# Altium footprint library KelvinVoltageMeasureModule.PcbLib: 35 footprints (part 1 of 3)
Each footprint in its own frame and in the unit in brackets; x right, y up, seen from the top. Pads: shape width x height; smd on the part's side, far side on the other; paste and mask are expansions set on the pad; w line width, h text height; cw(c..) or ccw(c..) is an arc to the next point about the centre after c.
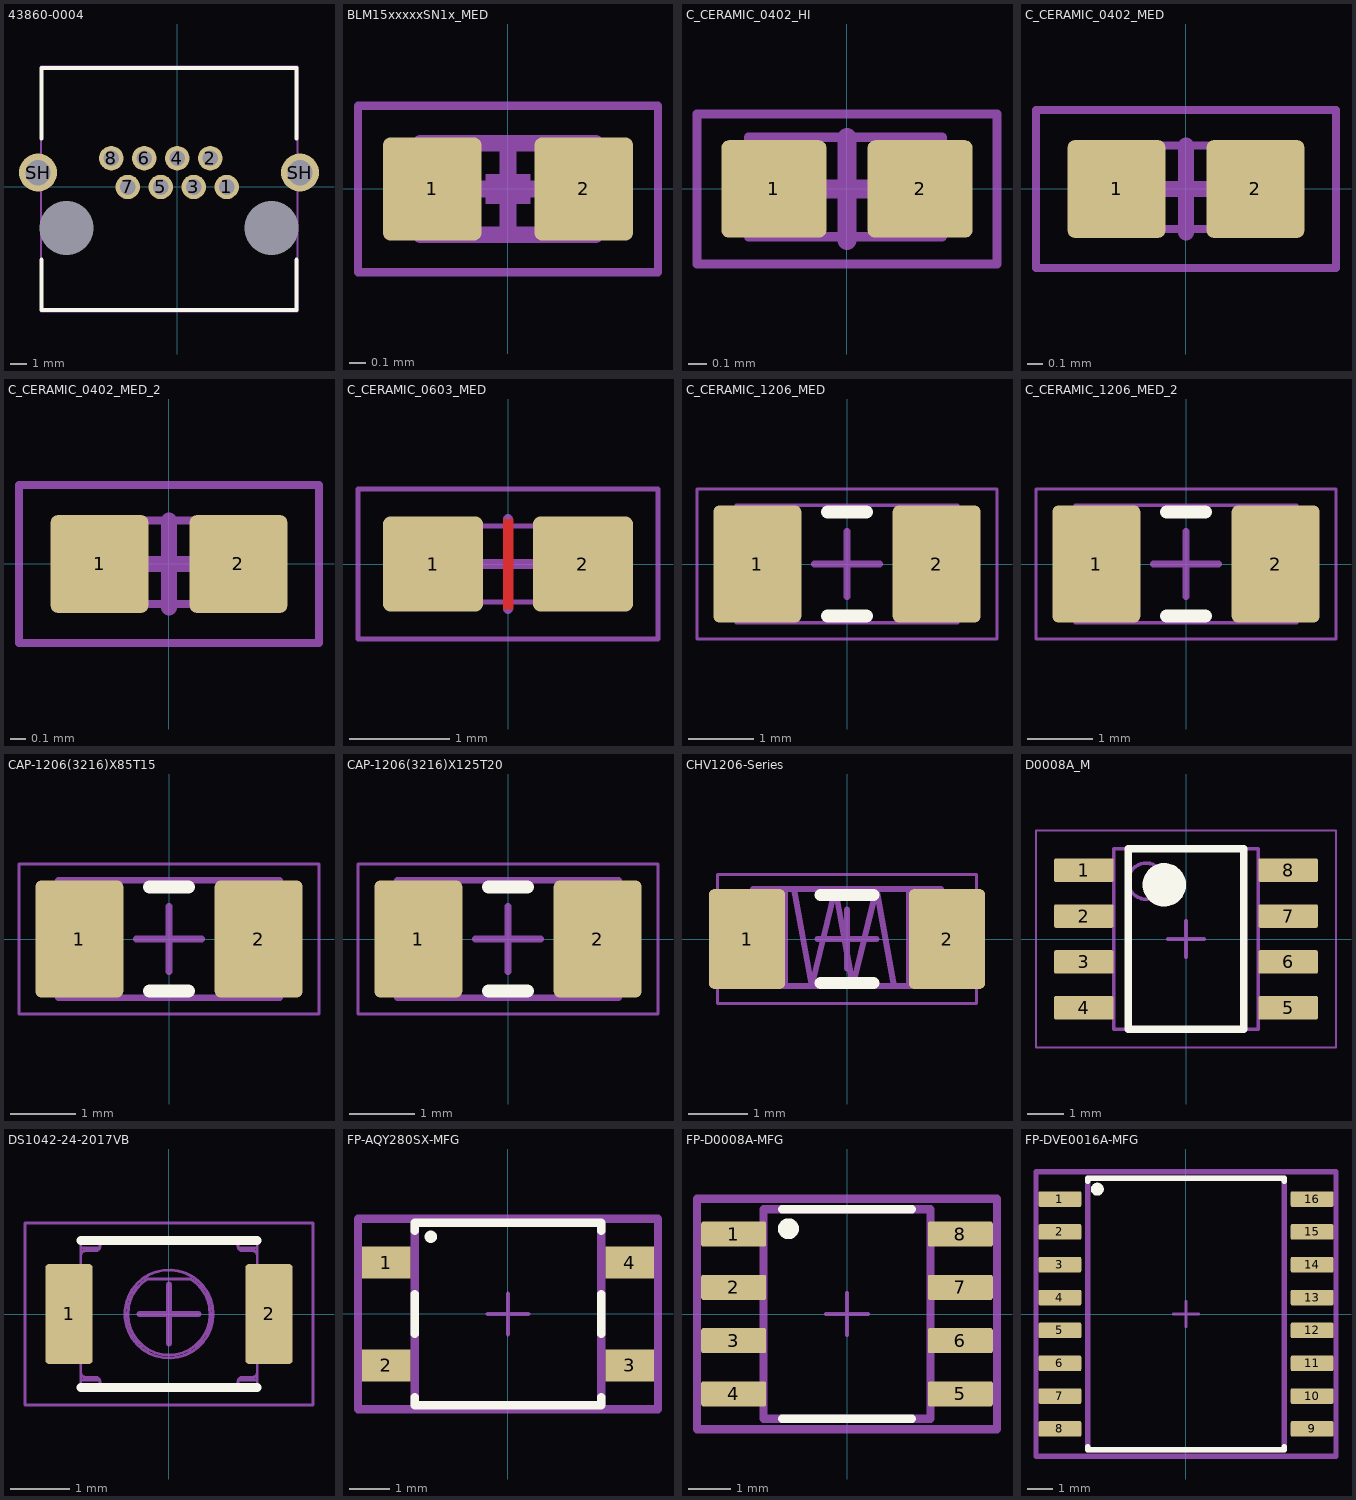
[diagram p0: the footprints below, top view; thin cyan lines are the x and y axes]

## 43860-0004 [mm]
pads (12):
  round 1.509 hole 0.97: 1(3.06,0) 2(2.04,1.78) 3(1.02,0) 4(0,1.78) 5(-1.02,0) 6(-2.04,1.78) 7(-3.06,0) 8(-4.08,1.78)
  round 0 hole 3.33 unplated paste-2539.97 mask+0.05: MP(-6.86,-2.54) MP(5.84,-2.54)
  round 2.355 hole 1.57: SH(-8.61,0.89) SH(7.59,0.89)
Top Overlay:
  lines w0.25: -8.385,-4.5 -8.385,-7.62 7.365,-7.62 7.365,-4.5 ; -8.385,3 -8.385,7.37 7.365,7.37 7.365,3
Top Designator:
  text ".Designator" at -2.7,8.9 h0.5
Top Assembly:
  circle w0.1: c-3.05,0 r0.424
  circle w0.1: c-1,0 r0.424
  circle w0.1: c1.049,0 r0.424
  circle w0.1: c3.1,0 r0.424
  circle w0.013: c-6.85,-2.55 r1.562
  circle w0.013: c5.85,-2.55 r1.562
  circle w0.1: c-4.1,1.8 r0.424
  circle w0.1: c-2.05,1.8 r0.424
  circle w0.1: c-0.001,1.8 r0.424
  circle w0.1: c2.05,1.8 r0.424
  lines w0.12: -8.44,-7.7 7.44,-7.7 7.44,7.45 -8.44,7.45 -8.44,-7.7
  text "RJ45" at -2.9,-6.7 h1.5
Top Value:
  text ".Comment" at -2.7,8.25 h0.5
3D body "43860-0004.stp": height 14.26, standoff -3.56, extent -9.57,-7.846 8.49,7.889

## BLM15xxxxxSN1x_MED [mm]
pads (2):
  rrect15% 0.59x0.62 smd mask+0.05: 1(-0.455,0) 2(0.455,0)
Top Courtyard:
  lines w0.05: -0.9,-0.5 -0.9,0.5 0.9,0.5 0.9,-0.5 -0.9,-0.5
  lines w0.1: -0.275,0 0.275,0 ; 0,-0.275 0,0.275
Top Designator:
  text ".Designator" at -1.912,1.299 h0.5
Top Assembly:
  region: 0.525,0.275 0.3,0.275 0.3,-0.275 0.525,-0.275
  rectangle: -0.525,-0.275 -0.3,0.275
  rectangle: -0.135,-0.09 0.135,-0.03
  rectangle: -0.135,0.03 0.135,0.09
  lines w0.025: -0.18,0 0.18,0
  lines w0.1: -0.525,-0.275 0.525,-0.275 0.525,0.275 -0.525,0.275 -0.525,-0.275
Top Value:
  text ".Comment" at -1.901,0.678 h0.5
3D body "BLM15AX102SN1D_MED.step": height 0.55, standoff 0, extent -0.525,-0.275 0.525,0.275

## C_CERAMIC_0402_HI [mm]
pads (2):
  rrect15% 0.56x0.52 smd mask+0.05: 1(-0.39,0) 2(0.39,0)
Top Courtyard:
  lines w0.05: -0.8,-0.4 0.8,-0.4 0.8,0.4 -0.8,0.4 -0.8,-0.4
  lines w0.1: -0.275,0 0.275,0 ; 0,-0.275 0,0.275
Top Designator:
  text ".Designator" at -2.25,1.3 h0.5
Top Assembly:
  region: 0.525,0.275 0.254,0.275 0.254,-0.254 0.525,-0.254
  rectangle: -0.525,-0.254 -0.254,0.275
  lines w0.05: -0.525,-0.254 0.508,-0.254 0.508,0.275 -0.525,0.275 -0.525,-0.254
Top Value:
  text ".Comment" at -2.25,0.7 h0.5
3D body "C0402.STEP": height 0.55, standoff 0, extent -0.525,-0.275 0.525,0.275

## C_CERAMIC_0402_MED [mm]
pads (2):
  rrect15% 0.62x0.62 smd mask+0.05: 1(-0.44,0) 2(0.44,0)
Top Courtyard:
  lines w0.05: -0.95,-0.5 0.95,-0.5 0.95,0.5 -0.95,0.5 -0.95,-0.5
  lines w0.1: -0.275,0 0.275,0 ; 0,-0.275 0,0.275
Top Designator:
  text ".Designator" at -2,1.3 h0.5
Top Assembly:
  rectangle: -0.525,-0.254 -0.254,0.275
  region: 0.525,0.275 0.254,0.275 0.254,-0.254 0.525,-0.254
  lines w0.05: -0.525,-0.254 -0.525,0.275 0.508,0.275 0.508,-0.254 -0.525,-0.254
Top Value:
  text ".Comment" at -2,0.6 h0.5
3D body "C0402.STEP": height 0.55, standoff 0, extent -0.525,-0.275 0.525,0.275

## C_CERAMIC_0402_MED_2 [mm]
pads (2):
  rrect15% 0.62x0.62 smd mask+0.05: 1(-0.44,0) 2(0.44,0)
Top Courtyard:
  lines w0.05: -0.95,-0.5 0.95,-0.5 0.95,0.5 -0.95,0.5 -0.95,-0.5
  lines w0.1: -0.275,0 0.275,0 ; 0,-0.275 0,0.275
Top Designator:
  text ".Designator" at -2,1.3 h0.5
Top Assembly:
  rectangle: -0.525,-0.254 -0.254,0.275
  region: 0.525,0.275 0.254,0.275 0.254,-0.254 0.525,-0.254
  lines w0.05: -0.525,-0.254 -0.525,0.275 0.508,0.275 0.508,-0.254 -0.525,-0.254
Top Value:
  text ".Comment" at -2,0.6 h0.5
3D body "C0402.STEP": height 0.55, standoff 0, extent -0.525,-0.275 0.525,0.275

## C_CERAMIC_0603_MED [mm]
pads (2):
  rrect15% 1x0.95 smd mask+0.05: 1(-0.75,0) 2(0.75,0)
Top Layer:
  pour cut-out: -0.05,0.45 0.05,0.45 0.05,-0.45 -0.05,-0.45
Top Courtyard:
  lines w0.05: -1.5,-0.75 1.5,-0.75 1.5,0.75 -1.5,0.75 -1.5,-0.75
  lines w0.1: -0.45,0 0.45,0 ; 0,-0.45 0,0.45
Top Designator:
  text ".Designator" at -1.8,1.6 h0.5
Top Assembly:
  region: 0.906,0.381 0.635,0.381 0.635,-0.381 0.906,-0.381
  rectangle: -0.906,-0.381 -0.635,0.381
  lines w0.05: -0.889,-0.381 0.889,-0.381 0.889,0.381 -0.889,0.381 -0.889,-0.381
Top Value:
  text ".Comment" at -1.8,1 h0.5
3D body "C0603.STEP": height 0.9, standoff 0, extent -0.9,-0.5 0.9,0.5

## C_CERAMIC_1206_MED [mm]
pads (2):
  rrect15% 1.35x1.8 smd mask+0.05: 1(-1.375,0) 2(1.375,0)
Top Overlay:
  lines w0.2: -0.3,-0.8 0.3,-0.8 ; -0.3,0.8 0.3,0.8
Top Courtyard:
  lines w0.05: -2.3,-1.15 2.3,-1.15 2.3,1.15 -2.3,1.15 -2.3,-1.15
  lines w0.1: -0.5,0 0.5,0 ; 0,-0.5 0,0.5
Top Designator:
  text ".Designator" at -1.9,2 h0.5
Top Assembly:
  region: 1.7,0.9 1.2,0.9 1.2,-0.9 1.7,-0.9
  rectangle: -1.7,-0.9 -1.2,0.9
  lines w0.05: -1.7,-0.9 1.7,-0.9 1.7,0.9 -1.7,0.9 -1.7,-0.9
Top Value:
  text ".Comment" at -1.9,1.4 h0.5
3D body "C1206.STEP": height 1.8, standoff 0, extent -1.7,-0.9 1.7,0.9

## C_CERAMIC_1206_MED_2 [mm]
pads (2):
  rrect15% 1.35x1.8 smd mask+0.05: 1(-1.375,0) 2(1.375,0)
Top Overlay:
  lines w0.2: -0.3,-0.8 0.3,-0.8 ; -0.3,0.8 0.3,0.8
Top Courtyard:
  lines w0.05: -2.3,-1.15 2.3,-1.15 2.3,1.15 -2.3,1.15 -2.3,-1.15
  lines w0.1: -0.5,0 0.5,0 ; 0,-0.5 0,0.5
Top Designator:
  text ".Designator" at -1.9,2 h0.5
Top Assembly:
  region: 1.7,0.9 1.2,0.9 1.2,-0.9 1.7,-0.9
  rectangle: -1.7,-0.9 -1.2,0.9
  lines w0.05: -1.7,-0.9 1.7,-0.9 1.7,0.9 -1.7,0.9 -1.7,-0.9
Top Value:
  text ".Comment" at -1.9,1.4 h0.5
3D body "C1206.STEP": height 1.8, standoff 0, extent -1.7,-0.9 1.7,0.9

## CAP-1206(3216)X85T15 [mm]
pads (2):
  rrect15% 1.35x1.8 smd mask+0.05: 1(-1.375,0) 2(1.375,0)
Top Overlay:
  lines w0.2: -0.3,-0.8 0.3,-0.8 ; -0.3,0.8 0.3,0.8
Top Courtyard:
  lines w0.05: -2.3,-1.15 -2.3,1.15 2.3,1.15 2.3,-1.15 -2.3,-1.15
  lines w0.1: -0.5,0 0.5,0 ; 0,-0.5 0,0.5
Top Designator:
  text ".Designator" at -1.7,1.9 h0.5
Top Assembly:
  region: 1.7,0.9 1.2,0.9 1.2,-0.9 1.7,-0.9
  rectangle: -1.7,-0.9 -1.2,0.9
  lines w0.1: -1.7,-0.9 -1.7,0.9 1.7,0.9 1.7,-0.9 -1.7,-0.9
Top Value:
  text ".Comment" at -1.7,1.3 h0.5
3D body "C1206(3216)085T15.STEP": height 1, standoff 0, extent -1.7,-0.9 1.7,0.9

## CAP-1206(3216)X125T20 [mm]
pads (2):
  rrect15% 1.35x1.8 smd mask+0.05: 1(-1.375,0) 2(1.375,0)
Top Overlay:
  lines w0.2: -0.3,-0.8 0.3,-0.8 ; -0.3,0.8 0.3,0.8
Top Courtyard:
  lines w0.05: -2.3,-1.15 2.3,-1.15 2.3,1.15 -2.3,1.15 -2.3,-1.15
  lines w0.1: -0.5,0 0.5,0 ; 0,-0.5 0,0.5
Top Designator:
  text ".Designator" at -1.8,1.95 h0.5
Top Assembly:
  rectangle: -1.7,-0.9 -1.2,0.9
  region: 1.7,0.9 1.2,0.9 1.2,-0.9 1.7,-0.9
  lines w0.1: -1.7,-0.9 1.7,-0.9 1.7,0.9 -1.7,0.9 -1.7,-0.9
Top Value:
  text ".Comment" at -1.8,1.35 h0.5
3D body "CAPC3216X14.step": height 1.45, standoff 0, extent -1.7,-0.9 1.7,0.9

## CHV1206-Series [mm]
pads (2):
  rrect15% 1.3x1.7 smd mask+0.05: 1(-1.7,0) 2(1.7,0)
Top Overlay:
  lines w0.2: -0.45,-0.75 0.45,-0.75 ; -0.45,0.75 0.45,0.75
Top Courtyard:
  lines w0.05: -2.2,-1.1 2.2,-1.1 2.2,1.1 -2.2,1.1 -2.2,-1.1
  lines w0.1: -0.5,0 0.5,0 ; 0,-0.5 0,0.5
Top Designator:
  text ".Designator" at -1.8,1.95 h0.5
Top Assembly:
  rectangle: -1.6,-0.8 -1,0.85
  region: 1.6,0.85 1,0.85 1,-0.8 1.6,-0.8
  lines w0.1: -0.9,0.85 -0.6,-0.8 -0.2,0.85 0.1,-0.8 0.5,0.85 0.8,-0.8 ; -1.6,-0.8 -1.6,0.85 1.6,0.85 1.6,-0.8 -1.6,-0.8
Top Value:
  text ".Comment" at -1.8,1.3 h0.5
3D body "RC1206.STEP": height 0.65, standoff 0, extent -1.6,-0.85 1.6,0.85

## D0008A_M [mm]
pads (8):
  rrect15% 1.65x0.65 smd: 1(-2.825,1.905) 2(-2.825,0.635) 3(-2.825,-0.635) 4(-2.825,-1.905) 5(2.825,-1.905) 6(2.825,-0.635) 7(2.825,0.635) 8(2.825,1.905)
Top Overlay:
  circle w0.6: c-0.6,1.5 r0.3
  lines w0.2: -1.6,-2.5 1.6,-2.5 1.6,2.5 -1.6,2.5 -1.6,-2.5
Mechanical 1:
  text ".Designator" at -1.397,-0.254 h0.6
Mechanical 13:
  circle w0.1: c-1.1,1.6 r0.5
  lines w0.1: -2,-2.5 2,-2.5 2,2.5 -2,2.5 -2,-2.5
Mechanical 15:
  lines w0.05: -4.15,-3 4.15,-3 4.15,3 -4.15,3 -4.15,-3
  lines w0.1: -0.5,0 0.5,0 ; 0,-0.5 0,0.5
3D body "SOIC-8akaD0008AakaM08A.stp": height 1.63, standoff 0, extent -3,-2.45 3,2.45

## DS1042-24-2017VB [mm]
pads (2):
  rrect15% 0.8x1.7 smd mask+0.05: 1(-1.7,0) 2(1.7,0)
Top Overlay:
  lines w0.15: -1.5,-1.25 1.5,-1.25 ; -1.5,1.25 1.5,1.25
Top Courtyard:
  lines w0.05: -2.45,-1.55 -2.45,1.55 2.45,1.55 2.45,-1.55 -2.45,-1.55
  lines w0.1: -0.5,0 0.5,0 ; 0,-0.5 0,0.5
Top Designator:
  text ".Designator" at -1.7,2.3 h0.5
Top Assembly:
  circle w0.05: c0,0 r0.75
  lines w0.05: -1.5,-1.125 -1.2,-1.125 ; -1.5,-1 ccw(c-1.425,-1) -1.425,-1.075 -1.25,-1.075 cw(c-1.25,-1.15) -1.175,-1.15 -1.175,-1.25 ; -1.5,-0.7 -2,-0.7 -2,0.7 -1.5,0.7 ; -1.5,1 cw(c-1.425,1) -1.425,1.075 -1.25,1.075 ccw(c-1.25,1.15) -1.175,1.15 -1.175,1.25 ; -1.5,1.125 -1.2,1.125 ; 1.175,-1.25 1.175,-1.15 cw(c1.25,-1.15) 1.25,-1.075 1.425,-1.075 ccw(c1.425,-1) 1.5,-1 ; 1.175,1.25 1.175,1.15 ccw(c1.25,1.15) 1.25,1.075 1.425,1.075 cw(c1.425,1) 1.5,1 ; 1.2,-1.125 1.5,-1.125 ; 1.2,1.125 1.5,1.125 ; 1.5,-0.7 2,-0.7 2,0.7 1.5,0.7 ; -1.5,-1.25 -1.5,1.25 1.5,1.25 1.5,-1.25 -1.5,-1.25 ; -0.371,0.594 ccw(c0,0) 0.371,0.594 -0.371,0.594
Top Value:
  text ".Comment" at -1.7,1.7 h0.5
3D body "SW_TACT_DS1042-24-X-017-.STEP": height 1.6, standoff 0, extent -2,-1.25 2,1.25

## FP-AQY280SX-MFG [mm]
pads (4):
  rect 1.2x0.8 smd paste+0 mask+0: 1(-3,1.27) 2(-3,-1.27) 3(3,-1.27) 4(3,1.27)
Top Overlay:
  circle w0.152: c-1.905,1.905 r0.076
  lines w0.2: -2.3,-2.045 -2.3,-2.25 2.3,-2.25 2.3,-2.045 ; -2.3,-0.495 -2.3,0.495 ; -2.3,2.045 -2.3,2.25 2.3,2.25 2.3,2.045 ; 2.3,-0.495 2.3,0.495
Top 3D Body:
  lines w0.2: -2.3,-2.25 2.3,-2.25 2.3,2.25 -2.3,2.25 -2.3,-2.25
Top Courtyard:
  lines w0.2: -3.7,-2.35 3.7,-2.35 3.7,2.35 -3.7,2.35 -3.7,-2.35
Top Assembly:
  lines w0.2: -3.7,-2.35 -3.7,2.35 3.7,2.35 3.7,-2.35 -3.7,-2.35
  text ".Designator" at -4.699,-0.066 h1
Top Component Center:
  lines w0.1: -0.5,0 0.5,0 ; 0,-0.5 0,0.5
3D body "Relay_Panasonic_AQY280SX_eec.STEP": height 0.25, standoff 0, extent -3.7,-2.35 3.7,2.35

## FP-D0008A-MFG [mm]
pads (8):
  rrect17% 1.55x0.6 smd paste+0 mask+0: 1(-2.7,1.905) 2(-2.7,0.635) 3(-2.7,-0.635) 4(-2.7,-1.905) 5(2.7,-1.905) 6(2.7,-0.635) 7(2.7,0.635) 8(2.7,1.905)
Top Overlay:
  circle w0.25: c-1.397,2.032 r0.125
  lines w0.2: -1.55,-2.5 1.55,-2.5 ; -1.55,2.5 1.55,2.5
Top 3D Body:
  lines w0.2: -1.99,-2.5 1.99,-2.5 1.99,2.5 -1.99,2.5 -1.99,-2.5
Top Courtyard:
  lines w0.2: -3.575,-2.75 3.575,-2.75 3.575,2.75 -3.575,2.75 -3.575,-2.75
Top Assembly:
  lines w0.2: -3.575,-2.75 3.575,-2.75 3.575,2.75 -3.575,2.75 -3.575,-2.75
  text ".Designator" at 0,0.188 h1
Top Component Center:
  lines w0.1: -0.5,0 0.5,0 ; 0,-0.5 0,0.5
3D body "IC_Texas_Instruments_ISO1540DR_eec.STEP": height 0.25, standoff 0, extent -3.575,-2.75 3.575,2.75

## FP-DVE0016A-MFG [mm]
pads (16):
  rrect17% 1.65x0.6 smd paste+0 mask+0: 1(-4.875,4.445) 2(-4.875,3.175) 3(-4.875,1.905) 4(-4.875,0.635) 5(-4.875,-0.635) 6(-4.875,-1.905) 7(-4.875,-3.175) 8(-4.875,-4.445) 9(4.875,-4.445) 10(4.875,-3.175) 11(4.875,-1.905) 12(4.875,-0.635) 13(4.875,0.635) 14(4.875,1.905) 15(4.875,3.175) 16(4.875,4.445)
Top Overlay:
  circle w0.25: c-3.429,4.826 r0.125
  lines w0.2: -3.8,-5.12 -3.8,-5.25 3.8,-5.25 3.8,-5.12 ; -3.8,5.12 -3.8,5.25 3.8,5.25 3.8,5.12
Top 3D Body:
  lines w0.2: -3.8,-5.25 -3.8,5.25 3.8,5.25 3.8,-5.25 -3.8,-5.25
Top Courtyard:
  lines w0.2: -5.8,-5.5 -5.8,5.5 5.8,5.5 5.8,-5.5 -5.8,-5.5
Top Assembly:
  lines w0.2: -5.8,-5.5 -5.8,5.5 5.8,5.5 5.8,-5.5 -5.8,-5.5
  text ".Designator" at 0,0.188 h1
Top Component Center:
  lines w0.1: -0.5,0 0.5,0 ; 0,-0.5 0,0.5
3D body "IC_Texas_Instruments_UCC12040DVER_eec.STEP": height 0.25, standoff 0, extent -5.8,-5.5 5.8,5.5